# Altium schematic symbol library Diode GOST.SchLib: 27 symbols
Pins are listed as number, name and electrical type; pins without a type are passive.

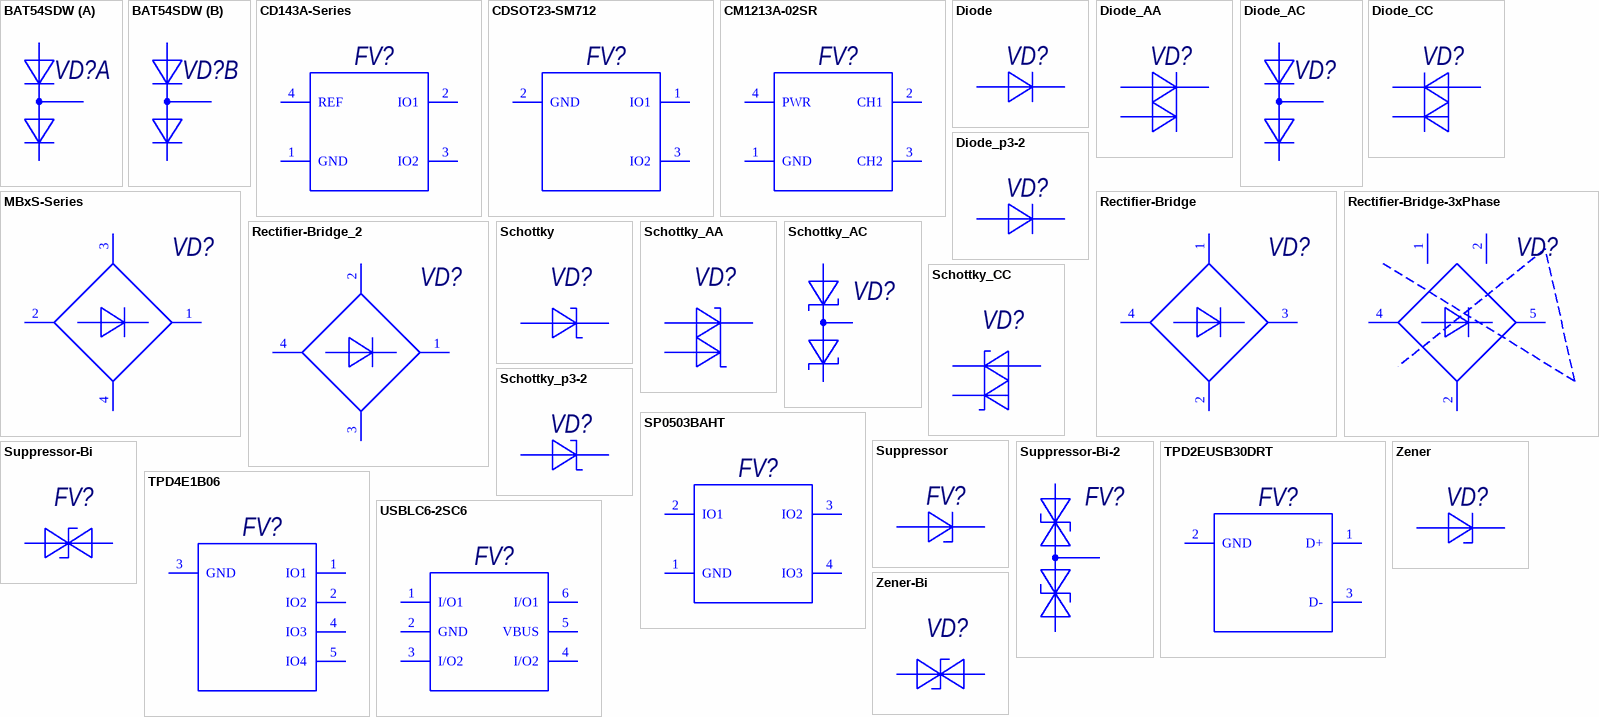
[diagram p0: symbols BAT54SDW to Zener-Bi]

## BAT54SDW
designator VD?
Type: Сборка диодная; Published: 20.02.2017; Publisher: Andrew Danich
part A pins: 1 А "Анод 1", 2 C "Катод 1", 6 AC "Анод\Катод 1"
part B pins: 3 AC "Анод\Катод 2", 4 А "Анод 2", 5 C "Катод 2"

## CD143A-Series
designator FV?
Published: 04.11.2015; Publisher: Andrew Danich; Type: Супрессор
pins: 1 GND, 2 IO1, 3 IO2, 4 REF

## CDSOT23-SM712
designator FV?
Published: 04.11.2015; Publisher: Andrew Danich; Type: Супрессор
pins: 1 IO1, 2 GND, 3 IO2

## CM1213A-02SR
designator FV?
Published: 21.02.2017; Publisher: Andrew Danich; Type: Супрессор
pins: 1 GND, 2 CH1, 3 CH2, 4 PWR

## Diode
designator VD?
Type: Диод; Published: 18.05.2010; Publisher: Andrew Danich
pins: 1 А "Анод", 2 К "Катод"

## Diode_AA
designator VD?
Type: Сборка диодная; Published: 08.07.2014; Publisher: Andrew Danich
pins: 1 А1 "Анод", 2 C "Катод", 3 А2 "Анод"

## Diode_AC
designator VD?
Type: Сборка диодная; Published: 08.07.2014; Publisher: Andrew Danich
pins: 1 А1 "Анод", 2 AC "Анод\Катод", 3 C "Катод"

## Diode_CC
designator VD?
Type: Сборка диодная; Published: 08.07.2014; Publisher: Andrew Danich
pins: 1 C1 "Катод", 2 A "Анод", 3 C2 "Катод"

## Diode_p3-2
designator VD?
Type: Диод; Published: 18.05.2010; Publisher: Andrew Danich
pins: 2 К "Катод", 3 А "Анод"

## MBxS-Series
designator VD?
Type: Диодный мост; Published: 10.02.2017; Publisher: Andrew Danich
pins: 1 +, 2 -, 3 ~, 4 ~

## Rectifier-Bridge
designator VD?
Type: Диодный мост; Published: 01.09.2010; Publisher: Andrew Danich
pins: 1 ~, 2 ~, 3 +, 4 -

## Rectifier-Bridge-3xPhase
designator VD?
Type: Диодный мост; Published: 26.07.2014; Publisher: Andrew Danich
pins: 1 ~, 2 ~, 2 ~, 4 -, 5 +

## Rectifier-Bridge_2
designator VD?
Type: Диодный мост; Published: 27.07.2015; Publisher: Andrew Danich
pins: 1 +, 2 ~, 3 ~, 4 -

## Schottky
designator VD?
Type: Диод; Published: 18.05.2010; Publisher: Andrew Danich
pins: 1 А "Анод", 2 К "Катод"

## Schottky_AA
designator VD?
Type: Сборка диодная; Published: 08.07.2014; Publisher: Andrew Danich
pins: 1 А1 "Анод", 2 К "Катод", 3 А2 "Анод"

## Schottky_AC
designator VD?
Type: Сборка диодная; Published: 08.08.2014; Publisher: Andrew Danich
pins: 1 А1 "Анод", 2 AC "Анод\Катод", 3 C "Катод"
1 alternate drawing of the same symbol

## Schottky_CC
designator VD?
Type: Сборка диодная; Published: 27.07.2015; Publisher: Andrew Danich
pins: 1 C1 "Анод", 2 K "Катод", 3 C2 "Анод"

## Schottky_p3-2
designator VD?
Type: Диод; Published: 18.05.2010; Publisher: Andrew Danich
pins: 2 К "Катод", 3 А "Анод"

## SP0503BAHT
designator FV?
Published: 11.04.2016; Publisher: Andrew Danich; Type: Супрессор
pins: 1 GND (power), 2 IO1, 3 IO2, 4 IO3

## Suppressor
designator FV?
Published: 27.07.2015; Publisher: Andrew Danich; Type: Супрессор
pins: 1 А "Анод", 2 К "Катод"

## Suppressor-Bi
designator FV?
Published: 27.07.2015; Publisher: Andrew Danich; Type: Супрессор
pins: 1 А "Анод", 2 К "Катод"

## Suppressor-Bi-2
designator FV?
Published: 17.10.2015; Publisher: Andrew Danich; Type: Супрессор
pins: 1, 2, 3

## TPD2EUSB30DRT
designator FV?
Published: 27.12.2015; Publisher: Andrew Danich; Type: Супрессор
pins: 1 D+, 2 GND, 3 D-

## TPD4E1B06
designator FV?
Published: 25.03.2016; Publisher: Andrew Danich; Type: Супрессор
pins: 1 IO1, 2 IO2, 3 GND, 4 IO3, 5 IO4

## USBLC6-2SC6
designator FV?
Published: 21.02.2017; Publisher: Andrew Danich; Type: Супрессор
pins: 1 I/O1, 2 GND, 3 I/O2, 4 I/O2, 5 VBUS, 6 I/O1

## Zener
designator VD?
Type: Стабилитрон; Published: 20.05.2013; Publisher: Andrew Danich
pins: 1 А "Анод", 2 К "Катод"

## Zener-Bi
designator VD?
Type: Стабилитрон; Published: 16.12.2014; Publisher: Andrew Danich
pins: 1 А "Анод", 2 К "Катод"